# EAGLE library part RAD38910 (library aquarius)
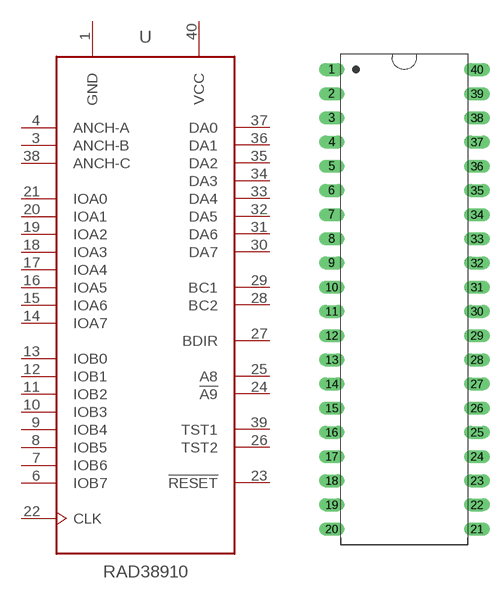
[diagram p3: symbol with the pads of RAD38910-DIL40-6; footprint RAD38910-DIL40-6]

Designator prefix -

## RAD38910DIL40-6  [RAD38910-DIL40-6]
1  GND  pwr
3  ANCH-B
4  ANCH-A
6  IOB7
7  IOB6
8  IOB5
9  IOB4
10  IOB3
11  IOB2
12  IOB1
13  IOB0
14  IOA7
15  IOA6
16  IOA5
17  IOA4
18  IOA3
19  IOA2
20  IOA1
21  IOA0
22  CLK  in
23  !RESET
24  !A9
25  A8
26  TST2
27  BDIR
28  BC2
29  BC1
30  DA7
31  DA6
32  DA5
33  DA4
34  DA3
35  DA2
36  DA1
37  DA0
38  ANCH-C
39  TST1
40  VCC  pwr

## Footprint RAD38910-DIL40-6 (pad centres in mm)
40-DIP, 2.54 mm (0.10 in) pitch, 7.62 mm (0.30 in) span, 51.57 X 13.32 X 5.08 mm body 40-pin DIP package with 2.54 mm (0.10 in) pitch, 7.62 mm (0.30 in) span with body size 51.57 X 13.32 X 5.08 mm
drill 0.743 pad 1.343 long: 1 -7.62,24.13; 2 -7.62,21.59; 3 -7.62,19.05; 4 -7.62,16.51; 5 -7.62,13.97; 6 -7.62,11.43; 7 -7.62,8.89; 8 -7.62,6.35; 9 -7.62,3.81; 10 -7.62,1.27; 11 -7.62,-1.27; 12 -7.62,-3.81; 13 -7.62,-6.35; 14 -7.62,-8.89; 15 -7.62,-11.43; 16 -7.62,-13.97; 17 -7.62,-16.51; 18 -7.62,-19.05; 19 -7.62,-21.59; 20 -7.62,-24.13; 21 7.62,-24.13; 22 7.62,-21.59; 23 7.62,-19.05; 24 7.62,-16.51; 25 7.62,-13.97; 26 7.62,-11.43; 27 7.62,-8.89; 28 7.62,-6.35; 29 7.62,-3.81; 30 7.62,-1.27; 31 7.62,1.27; 32 7.62,3.81; 33 7.62,6.35; 34 7.62,8.89; 35 7.62,11.43; 36 7.62,13.97; 37 7.62,16.51; 38 7.62,19.05; 39 7.62,21.59; 40 7.62,24.13